# Altium schematic symbol library 2026-03-14_22-01-45.SchLib: 1 symbol
Pins are listed as number, name and electrical type; pins without a type are passive.

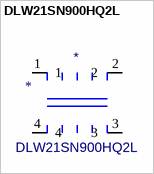
[diagram p0: symbol DLW21SN900HQ2L]

## DLW21SN900HQ2L
designator *  value DLW21SN900HQ2L
ki_fp_filters: IND_DLW21S_0805_MUR IND_DLW21S_0805_MUR-M IND_DLW21S_0805_MUR-L; Footprint: IND_DLW21S_0805_MUR; Supplier: DLW21SN900HQ2L; ki_keywords: DLW21SN900HQ2L
footprint IND_DLW21S_0805_MUR
pins: 1, 2, 3, 4